# EAGLE library part TPS63802DLAT (library DCDC)
Switching Voltage Regulators High current, high efficiency single inductor buck-boost converter 10-VSON-HR -40 to 125 Source: Datasheet <https://www.ti.com/lit/gpn/TPS63802>
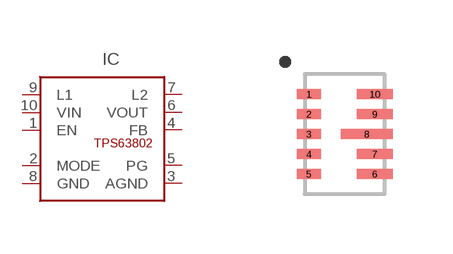
[diagram p3: symbol with the pads of TPS63802DLAT; footprint TPS63802DLAT]

Designator prefix IC

## TPS63802DLAT (DESCRIPTION: Switching Voltage Regulators High current, high efficiency single inductor buck-boost converter 10-VSON-HR -40 to 125; HEIGHT: 1mm; MANUFACTURER_NAME: Texas Instruments; MANUFACTURER_PART_NUMBER: TPS63802DLAT; MOUSER_PART_NUMBER: 595-TPS63802DLAT; MOUSER_PRICE-STOCK: https://www.mouser.co.uk/ProductDetail/Texas-Instruments/TPS63802DLAT?qs=9r4v7xj2LnmaSyyQsA%2FrUA%3D%3D)  [TPS63802DLAT]
1  EN
2  MODE
3  AGND
4  FB
5  PG
6  VOUT
7  L2
8  GND
9  L1
10  VIN

## Footprint TPS63802DLAT (pad centres in mm)
TPS63802DLAT-1
smd 0.6 x 0.25: 1 -0.9,1; 2 -0.9,0.5; 3 -0.9,0; 4 -0.9,-0.5; 5 -0.9,-1
smd 0.9 x 0.25: 6 0.75,-1; 7 0.75,-0.5; 9 0.75,0.5; 10 0.75,1
smd 1.3 x 0.25: 8 0.55,0